# Altium schematic symbol library ContrastPot.SchLib: 1 symbol
Pins are listed as number, name and electrical type; pins without a type are passive.

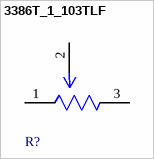
[diagram p0: symbol 3386T_1_103TLF]

## 3386T_1_103TLF
designator R?, comment 100k  (value not drawn)
Contrast Trim Potentiometer
footprint FP-3386T-MFG
pins: 1 CCW, 2 WIPER, 3 CW